# Altium footprint library LIS2DH12.PcbLib: 1 footprints
Each footprint in its own frame and in the unit in brackets; x right, y up, seen from the top. Pads: shape width x height; smd on the part's side, far side on the other; paste and mask are expansions set on the pad; w line width, h text height; cw(c..) or ccw(c..) is an arc to the next point about the centre after c.
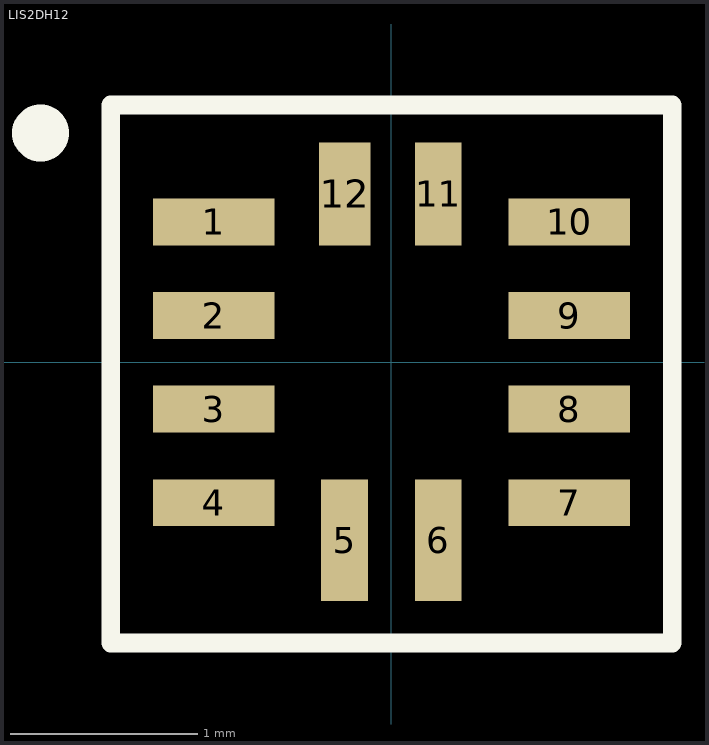
[diagram p0: the footprint, top view; thin cyan lines are the x and y axes]

## LIS2DH12 [mm] "LIS2DH with 12 pads (not 14)"
height 1
pads (12):
  rect 0.65x0.25 smd: 1(-0.95,0.75) 2(-0.95,0.25) 3(-0.95,-0.25) 4(-0.95,-0.75) 7(0.95,-0.75) 8(0.95,-0.25) 9(0.95,0.25) 10(0.95,0.75)
  rect 0.25x0.65 smd: 5(-0.25,-0.95) 6(0.25,-0.95)
  rect 0.25x0.55 smd: 11(0.25,0.9)
  rect 0.275x0.55 smd: 12(-0.25,0.9)
Top Overlay:
  circle w0.254: c-1.875,1.225 r0.025
  lines w0.1: -1.5,-1.5 -1.5,1.375 1.5,1.375 1.5,-1.5 -1.5,-1.5
3D body: height 1, standoff 0, extent -0.999,-0.999 0.999,0.999